# EAGLE library part FH19C-34S-0.5SH (library SSI)
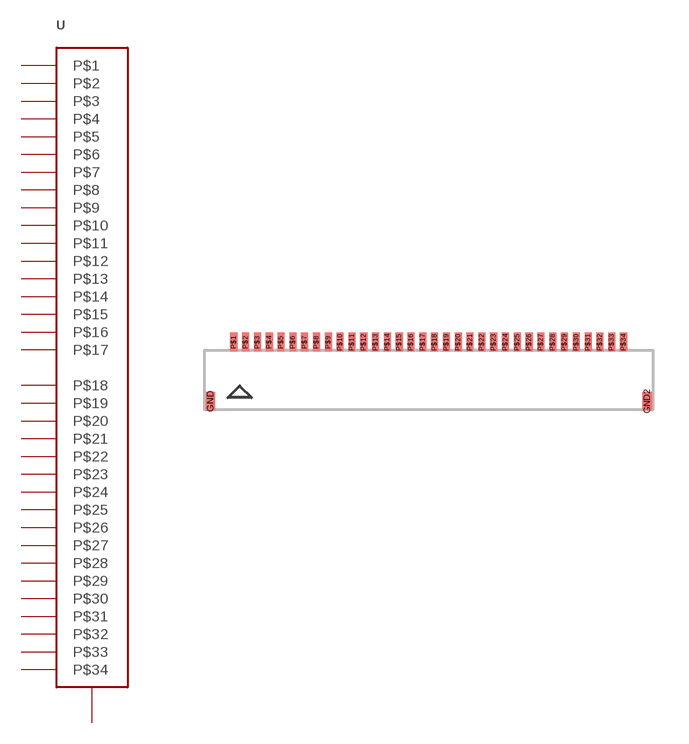
[diagram p24: symbol with the pads of FH19C-34S-0.5SH; footprint FH19C-34S-0.5SH]

Designator prefix -

## FH19C-34S-0.5SH  [FH19C-34S-0.5SH]
GND  P$35
GND2  P$35
P$1  P$1
P$2  P$2
P$3  P$3
P$4  P$4
P$5  P$5
P$6  P$6
P$7  P$7
P$8  P$8
P$9  P$9
P$10  P$10
P$11  P$11
P$12  P$12
P$13  P$13
P$14  P$14
P$15  P$15
P$16  P$16
P$17  P$17
P$18  P$18
P$19  P$19
P$20  P$20
P$21  P$21
P$22  P$22
P$23  P$23
P$24  P$24
P$25  P$25
P$26  P$26
P$27  P$27
P$28  P$28
P$29  P$29
P$30  P$30
P$31  P$31
P$32  P$32
P$33  P$33
P$34  P$34

## Footprint FH19C-34S-0.5SH (pad centres in mm)
smd 0.4 x 0.8: GND -9.25,-0.92; GND2 9.25,-0.92
smd 0.3 x 0.8: P$1 -8.25,1.58; P$2 -7.75,1.58; P$3 -7.25,1.58; P$4 -6.75,1.58; P$5 -6.25,1.58; P$6 -5.75,1.58; P$7 -5.25,1.58; P$8 -4.75,1.58; P$9 -4.25,1.58; P$10 -3.75,1.58; P$11 -3.25,1.58; P$12 -2.75,1.58; P$13 -2.25,1.58; P$14 -1.75,1.58; P$15 -1.25,1.58; P$16 -0.75,1.58; P$17 -0.25,1.58; P$18 0.25,1.58; P$19 0.75,1.58; P$20 1.25,1.58; P$21 1.75,1.58; P$22 2.25,1.58; P$23 2.75,1.58; P$24 3.25,1.58; P$25 3.75,1.58; P$26 4.25,1.58; P$27 4.75,1.58; P$28 5.25,1.58; P$29 5.75,1.58; P$30 6.25,1.58; P$31 6.75,1.58; P$32 7.25,1.58; P$33 7.75,1.58; P$34 8.25,1.58